# Altium schematic symbol library Fuse.SchLib: 4 symbols
Pins are listed as number, name and electrical type; pins without a type are passive.

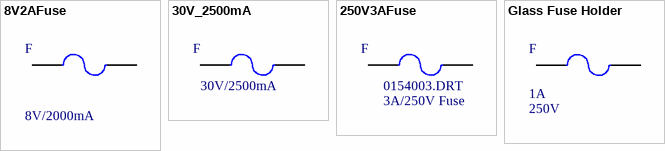
[diagram p0: symbols 8V2AFuse to Glass Fuse Holder]

## 8V2AFuse
designator F  value 8V/2000mA  (hidden comment: *)
Manufacturer Code: 1812L200DR; Manufacturer: LITTLEFUSE; Voltage: 8V; Current: 2A; Farnell Code: 1597009; Unit Price: 0,54 €
footprint 1812
pins: 1, 2

## 30V_2500mA
designator F  value 30V/2500mA  (hidden comment: *)
Manufacturer: TE Connectivity; Manufacturer Code: RUEF250; Value: Fuse; Current: 2500mA; Voltage: 30V; Farnell Code: 1175848; Unit Price: 0,43 €
footprint REUEF250
pins: 1, 2

## 250V3AFuse
designator F  value 3A/250V Fuse  Manufacturer Code: 0154003.DRT  (hidden comment: *)
Manufacturer: LITTLEFUSE; Voltage: 250V; Current: 3A; Farnell Code: 9943749; Unit Price: 2,13 €
footprint SMD FUSE (Footprint not found)
pins: 1, 2

## Glass Fuse Holder
designator F  Current: 1A  Voltage: 250V  (hidden comment: *)
Manufacturer: LITTELFUSE; Manufacturer Code: 64900001039; Value: Glass Fuse Holder; Unit Price: 0,34 €
footprint Glass Fuse Holder
pins: 1, 2